# Altium schematic symbol library NASCO Capacitors.SchLib: 5 symbols
Pins are listed as number, name and electrical type; pins without a type are passive.

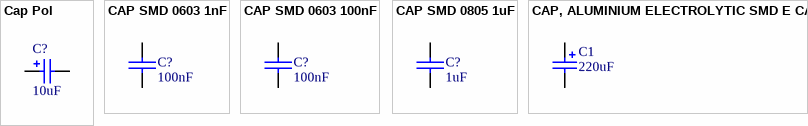
[diagram p0: symbols Cap Pol to CAP, ALUMINIUM ELECTROLYTIC SMD E CASE]

## Cap Pol
designator C?, comment 10uF
CAPACITOR POLARISED TAG B CASE; Manufacturer: TDK; Manufacturer Part No.: C3216Y5V1E106Z; Mouser Part no.: 810-C3216Y5V1E106Z; Web link: http://au.mouser.com/ProductDetail/TDK/C3216Y5V1E106Z/?qs=AyPIpdcXAJZm7Kn0QBi71w%3d%3d; value: 10uF
footprint RB7.6-15
simulation model CAP (Capacitor)
signal-integrity model Cap Pol
footprint 1210
footprint 1210_POLARIZED; pin to pad 1>2 2>1
footprint 1210_Pol_Extended; pin to pad 1>2 2>1
footprint TAG B CASE
pins: 1 "+", 2 "-"

## CAP SMD 0603 1nF
designator C?, comment 100nF
CAPACITOR SMD 0603; Manufacturer: Murata; Manufacturer Part No.: GCM1885C1H102JA16D; Mouser Part no.: 81-GCM1885C1H102JA6D; Farnell Part no.: 1414610; Web link: http://au.mouser.com/ProductDetail/Murata/GCM1885C1H102JA16D/?qs=aEuGZpxfbxWracuMmQWyxw%3d%3d; value: 100nF
footprint CAP(3D) - 0603
pins: 1, 2

## CAP SMD 0603 100nF
designator C?, comment 100nF
CAPACITOR SMD 0603; Manufacturer: Murata; Manufacturer Part No.: GCM188R71C104KA37D; Mouser Part no.: 81-GCM188R71C104KA7D; Farnell Part no.: 1414610; Web link: http://au.mouser.com/ProductDetail/Murata/GCM188R71C104KA37D/?qs=aEuGZpxfbxWKAxwYn%252beTMg%3d%3d; value: 100nF
footprint CAP(3D) - 0603
pins: 1, 2

## CAP SMD 0805 1uF
designator C?, comment 1uF
CAPACITOR SMD 0805; Manufacturer Part No.: 80-C0805S103K5R; Mouser Part no.: 80-C0805S103K5R; Web link: http://au.mouser.com/ProductDetail/Kemet/C0805S103K5RACTU/?qs=sGAEpiMZZMukHu%252bjC5l7YburjfFXXRNJ7O%2favhHW5F4%3d; value: 1uF
footprint CAP (3D) - 0805 POLARISED
pins: 1, 2

## CAP, ALUMINIUM ELECTROLYTIC SMD E CASE
designator C1, comment 220uF
Polarized Capacitor (Radial); Manufacturer Part No.: EMVH250ADA221MJA0G; MANUNFACTURER: United Chemi-Con; Mouser Part No.: 661-MVH25V221M; Value: 220uF
footprint CAP, SMD E CASE
pins: 1, 2
1 alternate drawing of the same symbol